# Altium schematic symbol library Capacitor.SchLib: 1 symbol
Pins are listed as number, name and electrical type; pins without a type are passive.

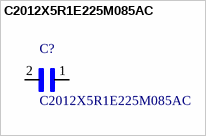
[diagram p0: symbol C2012X5R1E225M085AC]

## C2012X5R1E225M085AC
designator C?
Cap Ceramic 2.2uF 25V X5R 20% SMD 0805 85Â°C Punched Paper T/R; MF: TDK; Package: 0805 TDK; MP: C2012X5R1E225M085AC; Availability: Unavailable; Price: None; SnapEDA_Link: https://www.snapeda.com/parts/C2012X5R1E225M085AC/TDK/view-part/?ref=snap; Value: *
footprint *CAPC2012X100N
pins: 1, 2